# EAGLE library part TPS61175 (library HAB)
TPS61175 TPS61175 3-A High Voltage Boost Converter with Soft-start and Programmable Switching Frequency
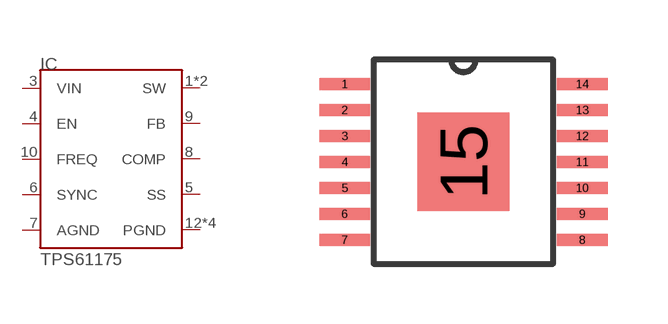
[diagram p14: symbol with the pads of R-PDSO-G14; footprint R-PDSO-G14]

Designator prefix IC

## TPS61175  [R-PDSO-G14]
1  SW  pwr
2  SW  pwr
3  VIN  pwr
4  EN  in
5  SS  pas
6  SYNC  in
7  AGND  pwr
8  COMP  pas
9  FB  in
10  FREQ  pas
12  PGND  pwr
13  PGND  pwr
14  PGND  pwr
15  PGND  pwr

## Footprint R-PDSO-G14 (pad centres in mm)
R-PDSO-G14 TI SO-14 PowerPAD package
smd 1.27 x 0.305: 1 -2.972,1.95; 2 -2.972,1.3; 3 -2.972,0.65; 4 -2.972,0; 5 -2.972,-0.65; 6 -2.972,-1.3; 7 -2.972,-1.95; 8 2.972,-1.95; 9 2.972,-1.3; 10 2.972,-0.65; 11 2.972,0; 12 2.972,0.65; 13 2.972,1.3; 14 2.972,1.95
smd 2.31 x 2.46: 15 0,0